# Altium integrated library Zilog eZ80 Acclaim Plus.IntLib: 4 symbols
Pins are listed as number, name and electrical type; pins without a type are passive.

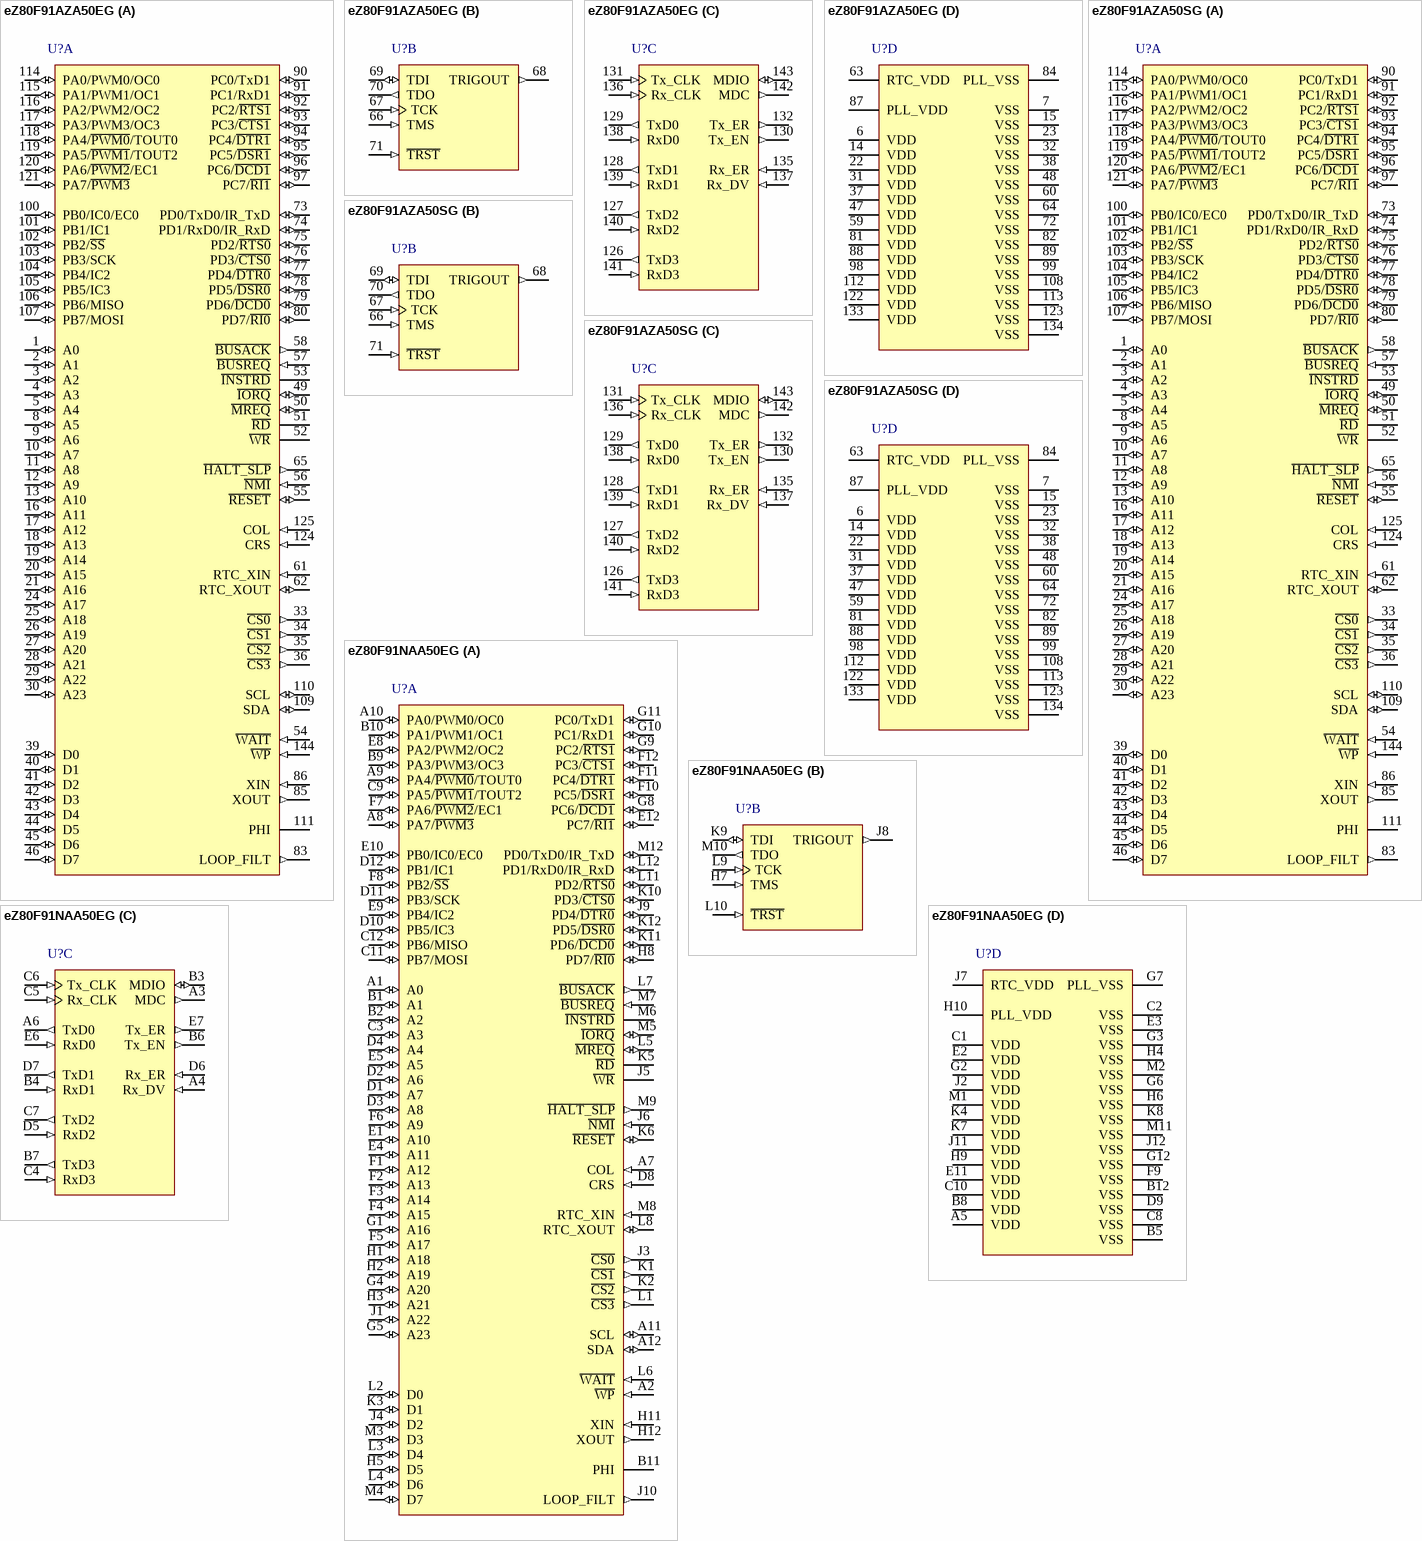
[diagram p0: symbols eZ80F91AZA50EG to eZ80F91NAA50EG]

## eZ80F91AZA50EG
designator U?
Microcontroller, 8-Bit, eZ80 Acclaim Plus, Flash ASSP, 256 KB Flash memory, 8 KB SRAM, 50 MHz, 144-LQFP, Extended Temperature, Pb-Free; DatasheetVersion: rev1, Jul-2007; PackageVersion: 1/09/2010; PackageReference: LQFP144; PackageDescription: 144-Pin Plastic Low-Profile Quad Flat Pack, 20 x 20 mm Body, 0.5 mm Pitch (LQFP); ComponentLink1Description: Manufacturer URL; ComponentLink1URL: http://www.zilog.com/
footprint LQFP144_N (Thin QFP, 144-Leads, Body 20x20mm, Pitch 0.5mm, IPC Medium Density)
footprint LQFP144_L (Thin QFP, 144-Leads, Body 20x20mm, Pitch 0.5mm, IPC High Density)
footprint LQFP144_M (Thin QFP, 144-Leads, Body 20x20mm, Pitch 0.5mm, IPC Low Density)
part A pins: 1 A0 (io), 2 A1 (io), 3 A2 (io), 4 A3 (io), 5 A4 (io), 8 A5 (io), 9 A6 (io), 10 A7 (io), 11 A8 (io), 12 A9 (io), 13 A10 (io), 16 A11 (io), 17 A12 (io), 18 A13 (io), 19 A14 (io), 20 A15 (io), 21 A16 (io), 24 A17 (io), 25 A18 (io), 26 A19 (io), 27 A20 (io), 28 A21 (io), 29 A22 (io), 30 A23 (io), 33 ~{CS0} (out), 34 ~{CS1} (out), 35 ~{CS2} (out), 36 ~{CS3} (out), 39 D0 (io), 40 D1 (io), 41 D2 (io), 42 D3 (io), 43 D4 (io), 44 D5 (io), 45 D6 (io), 46 D7 (io), 49 ~{IORQ} (io), 50 ~{MREQ} (io), 51 ~{RD} (hiz), 52 ~{WR} (hiz), 53 ~{INSTRD} (hiz), 54 ~{WAIT} (in), 55 ~{RESET} (io), 56 ~{NMI} (in), 57 ~{BUSREQ} (in), 58 ~{BUSACK} (out), 61 RTC_XIN (in), 62 RTC_XOUT (io), 65 ~{HALT_SLP} (out), 73 PD0/TxD0/IR_TxD (io), 74 PD1/RxD0/IR_RxD (io), 75 PD2/~{RTS0} (io), 76 PD3/~{CTS0} (io), 77 PD4/~{DTR0} (io), 78 PD5/~{DSR0} (io), 79 PD6/~{DCD0} (io), 80 PD7/~{RI0} (io), 83 LOOP_FILT (out), 85 XOUT (out), 86 XIN (in), 90 PC0/TxD1 (io), 91 PC1/RxD1 (io), 92 PC2/~{RTS1} (io), 93 PC3/~{CTS1} (io), 94 PC4/~{DTR1} (io), 95 PC5/~{DSR1} (io), 96 PC6/~{DCD1} (io), 97 PC7/~{RI1} (io), 100 PB0/IC0/EC0 (io), 101 PB1/IC1 (io), 102 PB2/~{SS} (io), 103 PB3/SCK (io), 104 PB4/IC2 (io), 105 PB5/IC3 (io), 106 PB6/MISO (io), 107 PB7/MOSI (io), 109 SDA (io), 110 SCL (io), 111 PHI (hiz), 114 PA0/PWM0/OC0 (io), 115 PA1/PWM1/OC1 (io), 116 PA2/PWM2/OC2 (io), 117 PA3/PWM3/OC3 (io), 118 PA4/~{PWM0}/TOUT0 (io), 119 PA5/~{PWM1}/TOUT2 (io), 120 PA6/~{PWM2}/EC1 (io), 121 PA7/~{PWM3} (io), 124 CRS (in), 125 COL (in), 144 ~{WP} (in)
part B pins: 66 TMS (in), 67 TCK (in), 68 TRIGOUT (out), 69 TDI (io), 70 TDO (out), 71 ~{TRST} (in)
part C pins: 126 TxD3 (out), 127 TxD2 (out), 128 TxD1 (out), 129 TxD0 (out), 130 Tx_EN (out), 131 Tx_CLK (in), 132 Tx_ER (out), 135 Rx_ER (in), 136 Rx_CLK (in), 137 Rx_DV (in), 138 RxD0 (in), 139 RxD1 (in), 140 RxD2 (in), 141 RxD3 (in), 142 MDC (out), 143 MDIO (io)
part D pins: 6 VDD (power), 7 VSS (power), 14 VDD (power), 15 VSS (power), 22 VDD (power), 23 VSS (power), 31 VDD (power), 32 VSS (power), 37 VDD (power), 38 VSS (power), 47 VDD (power), 48 VSS (power), 59 VDD (power), 60 VSS (power), 63 RTC_VDD (power), 64 VSS (power), 72 VSS (power), 81 VDD (power), 82 VSS (power), 84 PLL_VSS (power), 87 PLL_VDD (power), 88 VDD (power), 89 VSS (power), 98 VDD (power), 99 VSS (power), 108 VSS (power), 112 VDD (power), 113 VSS (power), 122 VDD (power), 123 VSS (power), 133 VDD (power), 134 VSS (power)

## eZ80F91AZA50SG
designator U?
Microcontroller, 8-Bit, eZ80 Acclaim Plus, Flash ASSP, 256 KB Flash memory, 8 KB SRAM, 50 MHz, 144-LQFP, Standard Temperature, Pb-Free; DatasheetVersion: rev1, Jul-2007; PackageVersion: 1/09/2010; PackageReference: LQFP144; PackageDescription: 144-Pin Plastic Low-Profile Quad Flat Pack, 20 x 20 mm Body, 0.5 mm Pitch (LQFP); ComponentLink1Description: Manufacturer URL; ComponentLink1URL: http://www.zilog.com/
footprint LQFP144_N (Thin QFP, 144-Leads, Body 20x20mm, Pitch 0.5mm, IPC Medium Density)
footprint LQFP144_L (Thin QFP, 144-Leads, Body 20x20mm, Pitch 0.5mm, IPC High Density)
footprint LQFP144_M (Thin QFP, 144-Leads, Body 20x20mm, Pitch 0.5mm, IPC Low Density)
part A pins: 1 A0 (io), 2 A1 (io), 3 A2 (io), 4 A3 (io), 5 A4 (io), 8 A5 (io), 9 A6 (io), 10 A7 (io), 11 A8 (io), 12 A9 (io), 13 A10 (io), 16 A11 (io), 17 A12 (io), 18 A13 (io), 19 A14 (io), 20 A15 (io), 21 A16 (io), 24 A17 (io), 25 A18 (io), 26 A19 (io), 27 A20 (io), 28 A21 (io), 29 A22 (io), 30 A23 (io), 33 ~{CS0} (out), 34 ~{CS1} (out), 35 ~{CS2} (out), 36 ~{CS3} (out), 39 D0 (io), 40 D1 (io), 41 D2 (io), 42 D3 (io), 43 D4 (io), 44 D5 (io), 45 D6 (io), 46 D7 (io), 49 ~{IORQ} (io), 50 ~{MREQ} (io), 51 ~{RD} (hiz), 52 ~{WR} (hiz), 53 ~{INSTRD} (hiz), 54 ~{WAIT} (in), 55 ~{RESET} (io), 56 ~{NMI} (in), 57 ~{BUSREQ} (in), 58 ~{BUSACK} (out), 61 RTC_XIN (in), 62 RTC_XOUT (io), 65 ~{HALT_SLP} (out), 73 PD0/TxD0/IR_TxD (io), 74 PD1/RxD0/IR_RxD (io), 75 PD2/~{RTS0} (io), 76 PD3/~{CTS0} (io), 77 PD4/~{DTR0} (io), 78 PD5/~{DSR0} (io), 79 PD6/~{DCD0} (io), 80 PD7/~{RI0} (io), 83 LOOP_FILT (out), 85 XOUT (out), 86 XIN (in), 90 PC0/TxD1 (io), 91 PC1/RxD1 (io), 92 PC2/~{RTS1} (io), 93 PC3/~{CTS1} (io), 94 PC4/~{DTR1} (io), 95 PC5/~{DSR1} (io), 96 PC6/~{DCD1} (io), 97 PC7/~{RI1} (io), 100 PB0/IC0/EC0 (io), 101 PB1/IC1 (io), 102 PB2/~{SS} (io), 103 PB3/SCK (io), 104 PB4/IC2 (io), 105 PB5/IC3 (io), 106 PB6/MISO (io), 107 PB7/MOSI (io), 109 SDA (io), 110 SCL (io), 111 PHI (hiz), 114 PA0/PWM0/OC0 (io), 115 PA1/PWM1/OC1 (io), 116 PA2/PWM2/OC2 (io), 117 PA3/PWM3/OC3 (io), 118 PA4/~{PWM0}/TOUT0 (io), 119 PA5/~{PWM1}/TOUT2 (io), 120 PA6/~{PWM2}/EC1 (io), 121 PA7/~{PWM3} (io), 124 CRS (in), 125 COL (in), 144 ~{WP} (in)
part B pins: 66 TMS (in), 67 TCK (in), 68 TRIGOUT (out), 69 TDI (io), 70 TDO (out), 71 ~{TRST} (in)
part C pins: 126 TxD3 (out), 127 TxD2 (out), 128 TxD1 (out), 129 TxD0 (out), 130 Tx_EN (out), 131 Tx_CLK (in), 132 Tx_ER (out), 135 Rx_ER (in), 136 Rx_CLK (in), 137 Rx_DV (in), 138 RxD0 (in), 139 RxD1 (in), 140 RxD2 (in), 141 RxD3 (in), 142 MDC (out), 143 MDIO (io)
part D pins: 6 VDD (power), 7 VSS (power), 14 VDD (power), 15 VSS (power), 22 VDD (power), 23 VSS (power), 31 VDD (power), 32 VSS (power), 37 VDD (power), 38 VSS (power), 47 VDD (power), 48 VSS (power), 59 VDD (power), 60 VSS (power), 63 RTC_VDD (power), 64 VSS (power), 72 VSS (power), 81 VDD (power), 82 VSS (power), 84 PLL_VSS (power), 87 PLL_VDD (power), 88 VDD (power), 89 VSS (power), 98 VDD (power), 99 VSS (power), 108 VSS (power), 112 VDD (power), 113 VSS (power), 122 VDD (power), 123 VSS (power), 133 VDD (power), 134 VSS (power)

## eZ80F91NAA50EG
designator U?
Microcontroller, 8-Bit, eZ80 Acclaim Plus, Flash ASSP, 256 KB Flash memory, 8 KB SRAM, 50 MHz, 144-BGA, Extended Temperature, Pb-Free; Note: Pad size based on 0.4mm solder ball diameter.; DatasheetVersion: rev1, Jul-2007; PackageVersion: 1/09/2010; PackageReference: BGA144; PackageDescription: 144-Lead Chip Array Ball Grid Array, 13 x 13 mm Body, 1 mm Pitch (BGA); ComponentLink1Description: Manufacturer URL; ComponentLink1URL: http://www.zilog.com/
footprint BGA144 (BGA, 144-Leads, Body 13x13mm, Pitch 1mm)
part A pins: A1 A0 (io), A2 ~{WP} (in), A7 COL (in), A8 PA7/~{PWM3} (io), A9 PA4/~{PWM0}/TOUT0 (io), A10 PA0/PWM0/OC0 (io), A11 SCL (io), A12 SDA (io), B1 A1 (io), B2 A2 (io), B9 PA3/PWM3/OC3 (io), B10 PA1/PWM1/OC1 (io), B11 PHI (hiz), C3 A3 (io), C9 PA5/~{PWM1}/TOUT2 (io), C11 PB7/MOSI (io), C12 PB6/MISO (io), D1 A7 (io), D2 A6 (io), D3 A8 (io), D4 A4 (io), D8 CRS (in), D10 PB5/IC3 (io), D11 PB3/SCK (io), D12 PB1/IC1 (io), E1 A10 (io), E4 A11 (io), E5 A5 (io), E8 PA2/PWM2/OC2 (io), E9 PB4/IC2 (io), E10 PB0/IC0/EC0 (io), E12 PC7/~{RI1} (io), F1 A12 (io), F2 A13 (io), F3 A14 (io), F4 A15 (io), F5 A17 (io), F6 A9 (io), F7 PA6/~{PWM2}/EC1 (io), F8 PB2/~{SS} (io), F10 PC5/~{DSR1} (io), F11 PC4/~{DTR1} (io), F12 PC3/~{CTS1} (io), G1 A16 (io), G4 A20 (io), G5 A23 (io), G8 PC6/~{DCD1} (io), G9 PC2/~{RTS1} (io), G10 PC1/RxD1 (io), G11 PC0/TxD1 (io), H1 A18 (io), H2 A19 (io), H3 A21 (io), H5 D5 (io), H8 PD7/~{RI0} (io), H11 XIN (in), H12 XOUT (out), J1 A22 (io), J3 ~{CS0} (out), J4 D2 (io), J5 ~{WR} (hiz), J6 ~{NMI} (in), J9 PD4/~{DTR0} (io), J10 LOOP_FILT (out), K1 ~{CS1} (out), K2 ~{CS2} (out), K3 D1 (io), K5 ~{RD} (hiz), K6 ~{RESET} (io), K10 PD3/~{CTS0} (io), K11 PD6/~{DCD0} (io), K12 PD5/~{DSR0} (io), L1 ~{CS3} (out), L2 D0 (io), L3 D4 (io), L4 D6 (io), L5 ~{MREQ} (io), L6 ~{WAIT} (in), L7 ~{BUSACK} (out), L8 RTC_XOUT (io), L11 PD2/~{RTS0} (io), L12 PD1/RxD0/IR_RxD (io), M3 D3 (io), M4 D7 (io), M5 ~{IORQ} (io), M6 ~{INSTRD} (hiz), M7 ~{BUSREQ} (in), M8 RTC_XIN (in), M9 ~{HALT_SLP} (out), M12 PD0/TxD0/IR_TxD (io)
part B pins: H7 TMS (in), J8 TRIGOUT (out), K9 TDI (io), L9 TCK (in), L10 ~{TRST} (in), M10 TDO (out)
part C pins: A3 MDC (out), A4 Rx_DV (in), A6 TxD0 (out), B3 MDIO (io), B4 RxD1 (in), B6 Tx_EN (out), B7 TxD3 (out), C4 RxD3 (in), C5 Rx_CLK (in), C6 Tx_CLK (in), C7 TxD2 (out), D5 RxD2 (in), D6 Rx_ER (in), D7 TxD1 (out), E6 RxD0 (in), E7 Tx_ER (out)
part D pins: A5 VDD (power), B5 VSS (power), B8 VDD (power), B12 VSS (power), C1 VDD (power), C2 VSS (power), C8 VSS (power), C10 VDD (power), D9 VSS (power), E2 VDD (power), E3 VSS (power), E11 VDD (power), F9 VSS (power), G2 VDD (power), G3 VSS (power), G6 VSS (power), G7 PLL_VSS (power), G12 VSS (power), H4 VSS (power), H6 VSS (power), H9 VDD (power), H10 PLL_VDD (power), J2 VDD (power), J7 RTC_VDD (power), J11 VDD (power), J12 VSS (power), K4 VDD (power), K7 VDD (power), K8 VSS (power), M1 VDD (power), M2 VSS (power), M11 VSS (power)

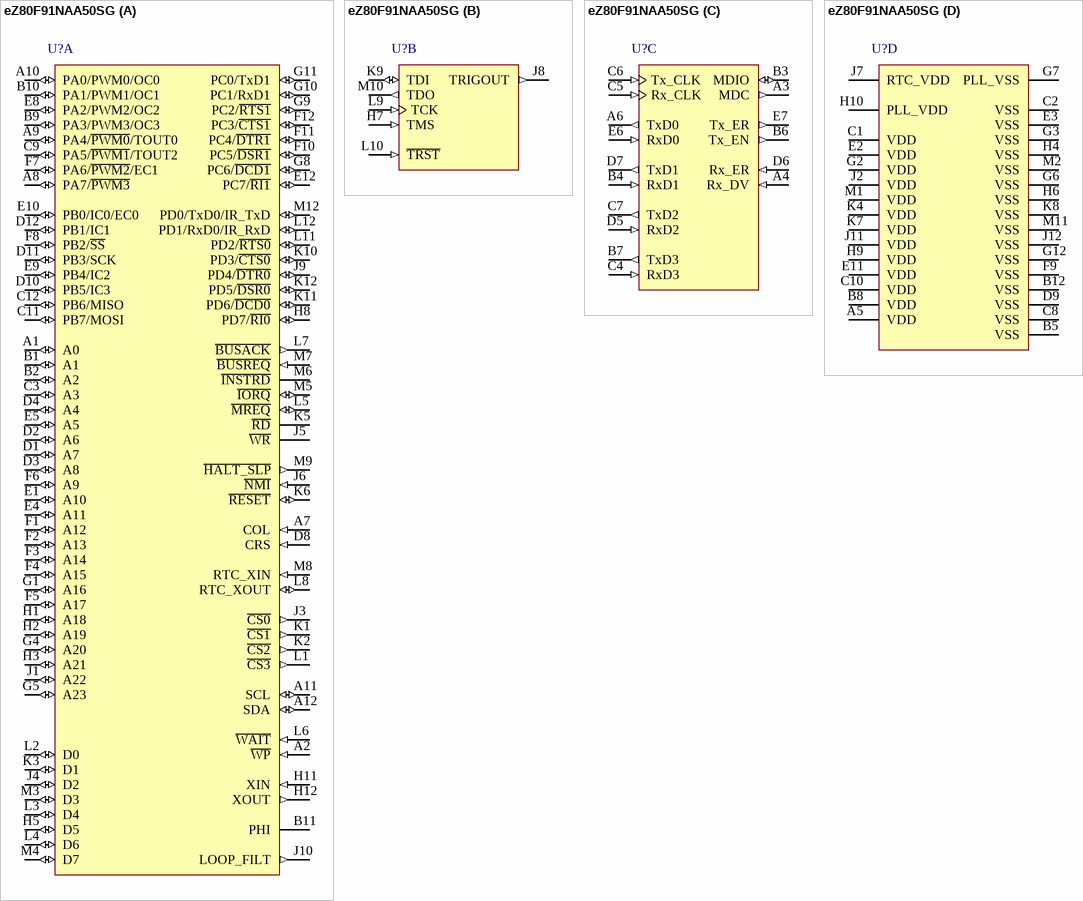
[diagram p1: symbol eZ80F91NAA50SG]

## eZ80F91NAA50SG
designator U?
Microcontroller, 8-Bit, eZ80 Acclaim Plus, Flash ASSP, 256 KB Flash memory, 8 KB SRAM, 50 MHz, 144-BGA, Standard Temperature, Pb-Free; Note: Pad size based on 0.4mm solder ball diameter.; DatasheetVersion: rev1, Jul-2007; PackageVersion: 1/09/2010; PackageReference: BGA144; PackageDescription: 144-Lead Chip Array Ball Grid Array, 13 x 13 mm Body, 1 mm Pitch (BGA); ComponentLink1Description: Manufacturer URL; ComponentLink1URL: http://www.zilog.com/
footprint BGA144 (BGA, 144-Leads, Body 13x13mm, Pitch 1mm)
part A pins: A1 A0 (io), A2 ~{WP} (in), A7 COL (in), A8 PA7/~{PWM3} (io), A9 PA4/~{PWM0}/TOUT0 (io), A10 PA0/PWM0/OC0 (io), A11 SCL (io), A12 SDA (io), B1 A1 (io), B2 A2 (io), B9 PA3/PWM3/OC3 (io), B10 PA1/PWM1/OC1 (io), B11 PHI (hiz), C3 A3 (io), C9 PA5/~{PWM1}/TOUT2 (io), C11 PB7/MOSI (io), C12 PB6/MISO (io), D1 A7 (io), D2 A6 (io), D3 A8 (io), D4 A4 (io), D8 CRS (in), D10 PB5/IC3 (io), D11 PB3/SCK (io), D12 PB1/IC1 (io), E1 A10 (io), E4 A11 (io), E5 A5 (io), E8 PA2/PWM2/OC2 (io), E9 PB4/IC2 (io), E10 PB0/IC0/EC0 (io), E12 PC7/~{RI1} (io), F1 A12 (io), F2 A13 (io), F3 A14 (io), F4 A15 (io), F5 A17 (io), F6 A9 (io), F7 PA6/~{PWM2}/EC1 (io), F8 PB2/~{SS} (io), F10 PC5/~{DSR1} (io), F11 PC4/~{DTR1} (io), F12 PC3/~{CTS1} (io), G1 A16 (io), G4 A20 (io), G5 A23 (io), G8 PC6/~{DCD1} (io), G9 PC2/~{RTS1} (io), G10 PC1/RxD1 (io), G11 PC0/TxD1 (io), H1 A18 (io), H2 A19 (io), H3 A21 (io), H5 D5 (io), H8 PD7/~{RI0} (io), H11 XIN (in), H12 XOUT (out), J1 A22 (io), J3 ~{CS0} (out), J4 D2 (io), J5 ~{WR} (hiz), J6 ~{NMI} (in), J9 PD4/~{DTR0} (io), J10 LOOP_FILT (out), K1 ~{CS1} (out), K2 ~{CS2} (out), K3 D1 (io), K5 ~{RD} (hiz), K6 ~{RESET} (io), K10 PD3/~{CTS0} (io), K11 PD6/~{DCD0} (io), K12 PD5/~{DSR0} (io), L1 ~{CS3} (out), L2 D0 (io), L3 D4 (io), L4 D6 (io), L5 ~{MREQ} (io), L6 ~{WAIT} (in), L7 ~{BUSACK} (out), L8 RTC_XOUT (io), L11 PD2/~{RTS0} (io), L12 PD1/RxD0/IR_RxD (io), M3 D3 (io), M4 D7 (io), M5 ~{IORQ} (io), M6 ~{INSTRD} (hiz), M7 ~{BUSREQ} (in), M8 RTC_XIN (in), M9 ~{HALT_SLP} (out), M12 PD0/TxD0/IR_TxD (io)
part B pins: H7 TMS (in), J8 TRIGOUT (out), K9 TDI (io), L9 TCK (in), L10 ~{TRST} (in), M10 TDO (out)
part C pins: A3 MDC (out), A4 Rx_DV (in), A6 TxD0 (out), B3 MDIO (io), B4 RxD1 (in), B6 Tx_EN (out), B7 TxD3 (out), C4 RxD3 (in), C5 Rx_CLK (in), C6 Tx_CLK (in), C7 TxD2 (out), D5 RxD2 (in), D6 Rx_ER (in), D7 TxD1 (out), E6 RxD0 (in), E7 Tx_ER (out)
part D pins: A5 VDD (power), B5 VSS (power), B8 VDD (power), B12 VSS (power), C1 VDD (power), C2 VSS (power), C8 VSS (power), C10 VDD (power), D9 VSS (power), E2 VDD (power), E3 VSS (power), E11 VDD (power), F9 VSS (power), G2 VDD (power), G3 VSS (power), G6 VSS (power), G7 PLL_VSS (power), G12 VSS (power), H4 VSS (power), H6 VSS (power), H9 VDD (power), H10 PLL_VDD (power), J2 VDD (power), J7 RTC_VDD (power), J11 VDD (power), J12 VSS (power), K4 VDD (power), K7 VDD (power), K8 VSS (power), M1 VDD (power), M2 VSS (power), M11 VSS (power)